# Altium integrated library medical.IntLib: 2 symbols
Pins are listed as number, name and electrical type; pins without a type are passive.

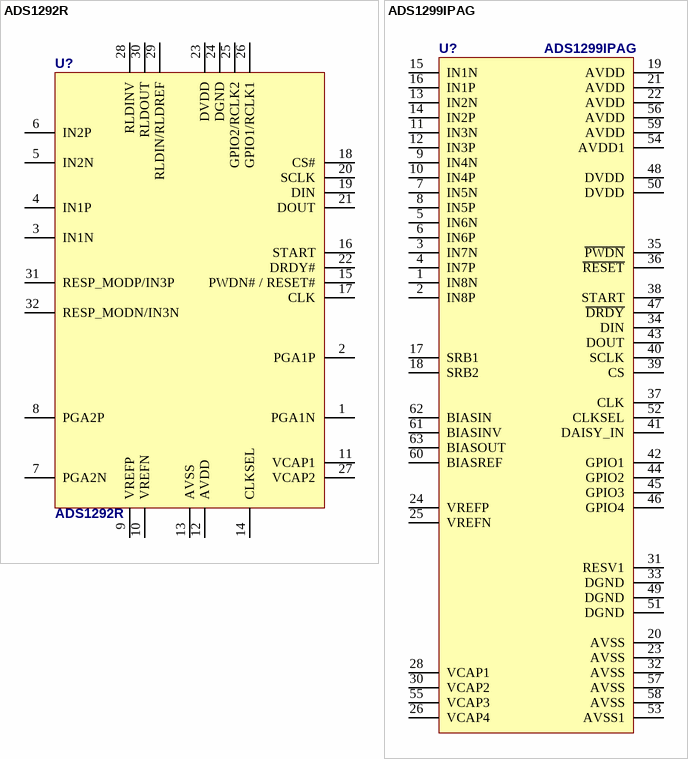
[diagram p0: symbols ADS1292R to ADS1299IPAG]

## ADS1292R
designator U?
Low-Power, 2-Channel, 24-Bit Analog Front-End for Biopotential Measurements
footprint TSQFP50P700X700X105-32N (TSQFP, 32-Leads, Body 5,00x5,00mm, Pitch 0,50mm, IPC Medium Density)
footprint TSQFP50P700X700X120-32M (TSQFP, 32-Leads, Body 7,2x7,2mm (max), Pitch 0,50mm, IPC Low Density)
pins: 1 PGA1N, 2 PGA1P, 3 IN1N, 4 IN1P, 5 IN2N, 6 IN2P, 7 PGA2N, 8 PGA2P, 9 VREFP, 10 VREFN, 11 VCAP1, 12 AVDD, 13 AVSS, 14 CLKSEL, 15 PWDN# / RESET#, 16 START, 17 CLK, 18 CS#, 19 DIN, 20 SCLK, 21 DOUT, 22 DRDY#, 23 DVDD, 24 DGND, 25 GPIO2/RCLK2, 26 GPIO1/RCLK1, 27 VCAP2, 28 RLDINV, 29 RLDIN/RLDREF, 30 RLDOUT, 31 RESP_MODP/IN3P, 32 RESP_MODN/IN3N

## ADS1299IPAG
designator U?
Low-Noise, 8-Channel, 24-Bit Analog Front-End for Biopotential Measurements
footprint TQFP64 (QFP; 64 Leads; Body 14 x 14 mm; Pitch 0.8 mm)
pins: 1 IN8N, 2 IN8P, 3 IN7N, 4 IN7P, 5 IN6N, 6 IN6P, 7 IN5N, 8 IN5P, 9 IN4N, 10 IN4P, 11 IN3N, 12 IN3P, 13 IN2N, 14 IN2P, 15 IN1N, 16 IN1P, 17 SRB1, 18 SRB2, 19 AVDD, 20 AVSS, 21 AVDD, 22 AVDD, 23 AVSS, 24 VREFP, 25 VREFN, 26 VCAP4, 27 NC hidden, 28 VCAP1, 29 NC hidden, 30 VCAP2, 31 RESV1, 32 AVSS, 33 DGND, 34 DIN, 35 ~{PWDN}, 36 ~{RESET}, 37 CLK, 38 START, 39 CS, 40 SCLK, 41 DAISY_IN, 42 GPIO1, 43 DOUT, 44 GPIO2, 45 GPIO3, 46 GPIO4, 47 ~{DRDY}, 48 DVDD, 49 DGND, 50 DVDD, 51 DGND, 52 CLKSEL, 53 AVSS1, 54 AVDD1, 55 VCAP3, 56 AVDD, 57 AVSS, 58 AVSS, 59 AVDD, 60 BIASREF, 61 BIASINV, 62 BIASIN, 63 BIASOUT, 64 Reserved hidden